# EAGLE library part UCC27524 (library ic-TI)
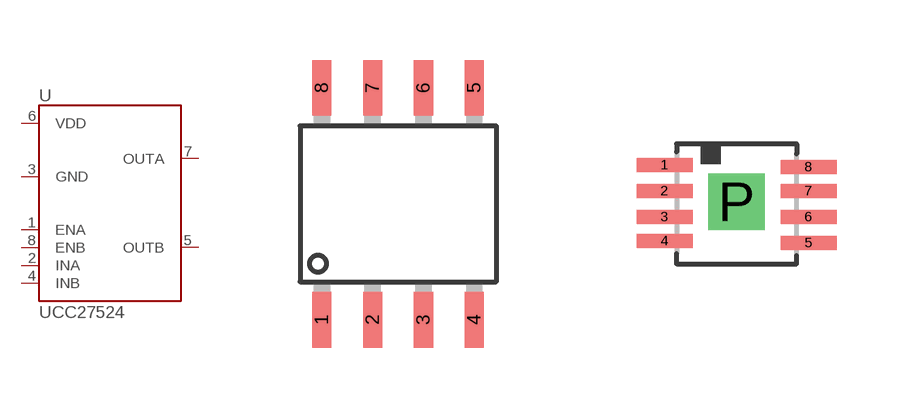
[diagram p31: symbol with the pads of SOP8; footprints SOP8, SON8_3_0.65]

Designator prefix U

## UCC27524D  [SOP8]
1  ENA
2  INA
3  GND
4  INB
5  OUTB
6  VDD
7  OUTA
8  ENB

## UCC27524DSD  [SON8_3_0.65]
1  ENA
2  INA
3  GND
4  INB
5  OUTB
6  VDD
7  OUTA
8  ENB
P  GND

## UCC27524DGN  [MSOP8-PAD]
1  ENA
2  INA
3  GND
4  INB
5  OUTB
6  VDD
7  OUTA
8  ENB
PAD  GND

## UCC27524DGN-NOPAD  [MSOP8]
Pads as for SOP8

## Footprint SOP8 (pad centres in mm)
smd 0.48 x 1.4: 1 -1.905,-2.9; 2 -0.635,-2.9; 3 0.635,-2.9; 4 1.905,-2.9; 5 1.905,2.9; 6 0.635,2.9; 7 -0.635,2.9; 8 -1.905,2.9

## Footprint SON8_3_0.65 (pad centres in mm)
smd 1.4 x 0.35: 1 -1.8,0.975; 2 -1.8,0.325; 3 -1.8,-0.325; 4 -1.8,-0.925; 5 1.8,-0.975; 6 1.8,-0.325; 7 1.8,0.325; 8 1.8,0.925
drill 0.9 pad 1.3 square: P 0,0.05

## Footprint MSOP8-PAD (pad centres in mm)
smd 0.4 x 1.2: 1 -0.975,-2.4; 2 -0.325,-2.4; 3 0.325,-2.4; 4 0.975,-2.4; 5 0.975,2.4; 6 0.325,2.4; 7 -0.325,2.4; 8 -0.975,2.4
drill 1.3 pad 2 square: PAD 0,0

## Footprint MSOP8 (pad centres in mm)
smd 0.4 x 1.2: 1 -0.975,-2.4; 2 -0.325,-2.4; 3 0.325,-2.4; 4 0.975,-2.4; 5 0.975,2.4; 6 0.325,2.4; 7 -0.325,2.4; 8 -0.975,2.4